# Altium footprint library 142-0701-871.PcbLib: 1 footprints
Each footprint in its own frame and in the unit in brackets; x right, y up, seen from the top. Pads: shape width x height; smd on the part's side, far side on the other; paste and mask are expansions set on the pad; w line width, h text height; cw(c..) or ccw(c..) is an arc to the next point about the centre after c.
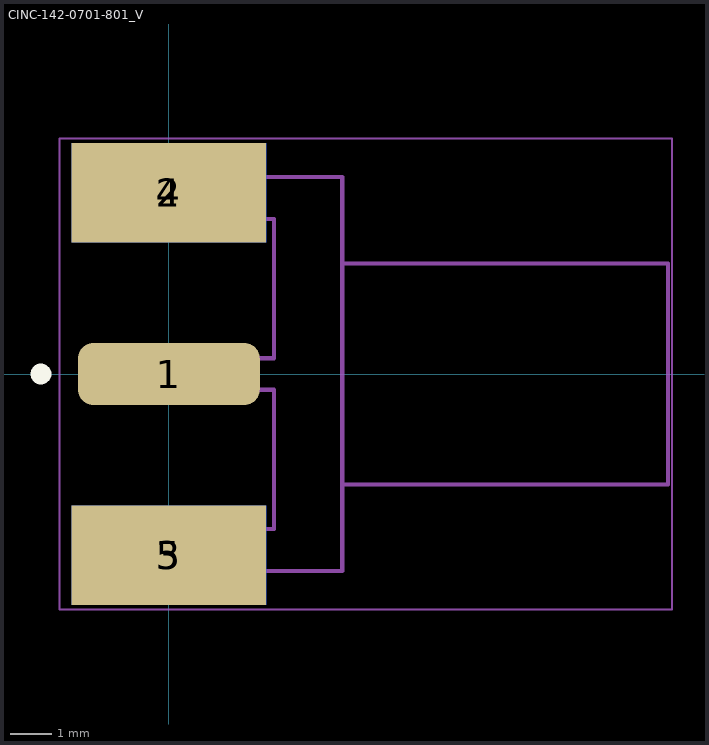
[diagram p0: the footprint, top view; thin cyan lines are the x and y axes]

## CINC-142-0701-801_V [mm] "SMA Connector, 5-Leads, Body 14.275x9.525mm"
height 4.343
pads (5):
  rrect50% 4.4x1.5 smd paste-10: 1(0,0)
  rect 4.7x2.4 smd paste-10: 2(0,4.381) 3(0,-4.381)
  rect 4.7x2.4 smd far side paste-10 mask+0.102: 4(0,4.381) 5(0,-4.381)
Top Overlay:
  circle w0.25: c-3.09,0 r0.125
Top Courtyard:
  lines w0.05: -2.64,-5.688 -2.64,5.688 12.165,5.688 12.165,-5.688 -2.64,-5.688
  lines w0.1: -0.5,0 0.5,0 ; 0,-0.5 0,0.5
Mechanical 13:
  lines w0.1: 4.191,-2.67 12.065,-2.67 12.065,2.67 ; 4.191,2.67 12.062,2.67 ; -2.21,-4.763 -2.21,-3.746 2.54,-3.746 2.54,-0.381 -1.17,-0.381 -1.17,0.381 2.54,0.381 2.54,3.746 -2.21,3.746 -2.21,4.763 4.191,4.763 4.191,-4.763 -2.21,-4.763
3D body "142-0701-871.STEP": height 4.36, standoff -3.56, extent -2.337,-4.763 15.113,4.763